# EAGLE library part CONN-MAGNETIC-06 (library MrRobotics-Connectors)
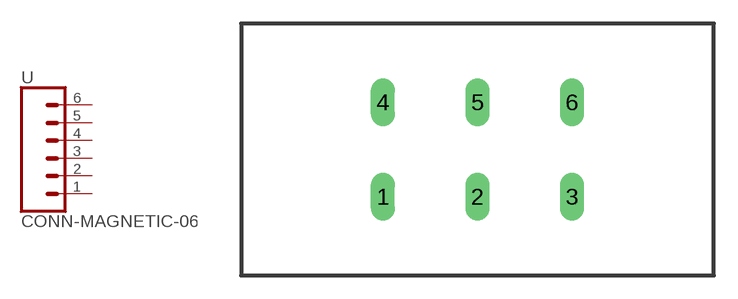
[diagram p5: symbol with the pads of PROGMATOR-06-LONG-PAD; footprint PROGMATOR-06-LONG-PAD]

Designator prefix -

## CONN-MAGNETIC-06  [PROGMATOR-06-LONG-PAD]
1  1  pas
2  2  pas
3  3  pas
4  4  pas
5  5  pas
6  6  pas

## Footprint PROGMATOR-06-LONG-PAD (pad centres in mm)
JST XH Connector Long Pads (Package) Wire to board connector. Pitch: 2,54 mm, (0.100") Number of pins: 6 Created by Rembrandt Electronics www.rembrandtelectronics.com
drill 1.016 long: 1 0,0; 2 6,0; 3 12,0; 4 0,6; 5 6,6; 6 12,6